# Altium schematic symbol library Schlib1.SchLib: 5 symbols
Pins are listed as number, name and electrical type; pins without a type are passive.

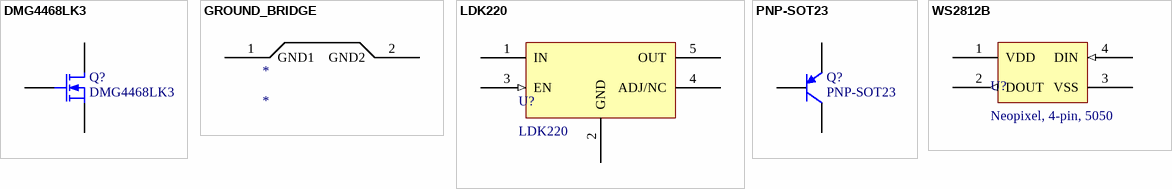
[diagram p0: symbols DMG4468LK3 to WS2812B]

## DMG4468LK3
designator Q?
N-CHANNEL ENHANCEMENT MODE MOSFET; LatestRevisionDate: 17-Jul-2002; LatestRevisionNote: Re-released for DXP Platform.; PackageVersion: 1995/1996; PackageReference: E3; PackageDescription: TO252
simulation model NMOS (MOSFET-N)
footprint TO252
pins: 1 G, 2 S, 3 D

## GROUND_BRIDGE
designator *
footprint GROUND_BRIDGE
pins: 1 GND1 (power), 2 GND2 (power)

## LDK220
designator U?
200 mA low quiescent current and low noise LDO
footprint SO-G5/P.95 (SOT-23/SC-74A; 5 Leads; Body 3.1 x 3 mm, inc. leads (LxW max))
pins: 1 IN (power), 2 GND (power), 3 EN (in), 4 ADJ/NC, 5 OUT (power)

## PNP-SOT23
designator Q?
PNP Bipolar Transistor - SOT23; Published: 8-Jun-2000; LatestRevisionDate: 29-May-2009; LatestRevisionNote: IPC-7351 Footprint Added.; PackageVersion: Aug-1999; PackageReference: SOT-23B; Publisher: Altium Limited; PackageDescription: 3-Pin SOT-23 Package 0.95 mm Pitch, 2.4 mm Lead Span
footprint SOT-23B_N (SOT23, 3-Leads, Body 2.9x1.3mm, Pitch 0.95mm, Lead Span 2.4mm, IPC Medium Density)
footprint SOT-23B_L (SOT23, 3-Leads, Body 2.9x1.3mm, Pitch 0.95mm, Lead Span 2.4mm, IPC High Density)
footprint SOT-23B_M (SOT23, 3-Leads, Body 2.9x1.3mm, Pitch 0.95mm, Lead Span 2.4mm, IPC Low Density)
simulation model PNP
signal-integrity model PNP
pins: 1 B, 2 E, 3 C

## WS2812B
designator U?, comment Neopixel, 4-pin, 5050
footprint LED5050
pins: 1 VDD (power), 2 DOUT (out), 3 VSS (power), 4 DIN (in)